# EAGLE library part LSM303DLHC (library ANIMAlib)
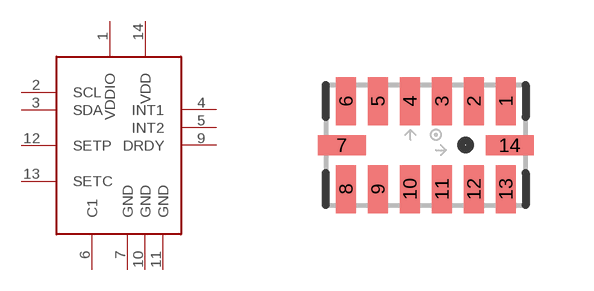
[diagram p27: symbol with the pads of LGA14; footprint LGA14]

Designator prefix U

## LSM303DLHC  [LGA14]
1  VDDIO
2  SCL
3  SDA
4  INT1
5  INT2
6  C1
7  GND
9  DRDY
10  GND
11  GND
12  SETP
13  SETC
14  VDD

## Footprint LGA14 (pad centres in mm)
smd 0.5 x 1.2: 1 2,1.1; 2 1.2,1.1; 3 0.4,1.1; 4 -0.4,1.1; 5 -1.2,1.1; 6 -2,1.1; 8 -2,-1.1; 9 -1.2,-1.1; 10 -0.4,-1.1; 11 0.4,-1.1; 12 1.2,-1.1; 13 2,-1.1
smd 1.2 x 0.5: 7 -2.1,0; 14 2.1,0